# Altium footprint library GH1.25.PcbLib: 10 footprints
Each footprint in its own frame and in the unit in brackets; x right, y up, seen from the top. Pads: shape width x height; smd on the part's side, far side on the other; paste and mask are expansions set on the pad; w line width, h text height; cw(c..) or ccw(c..) is an arc to the next point about the centre after c.
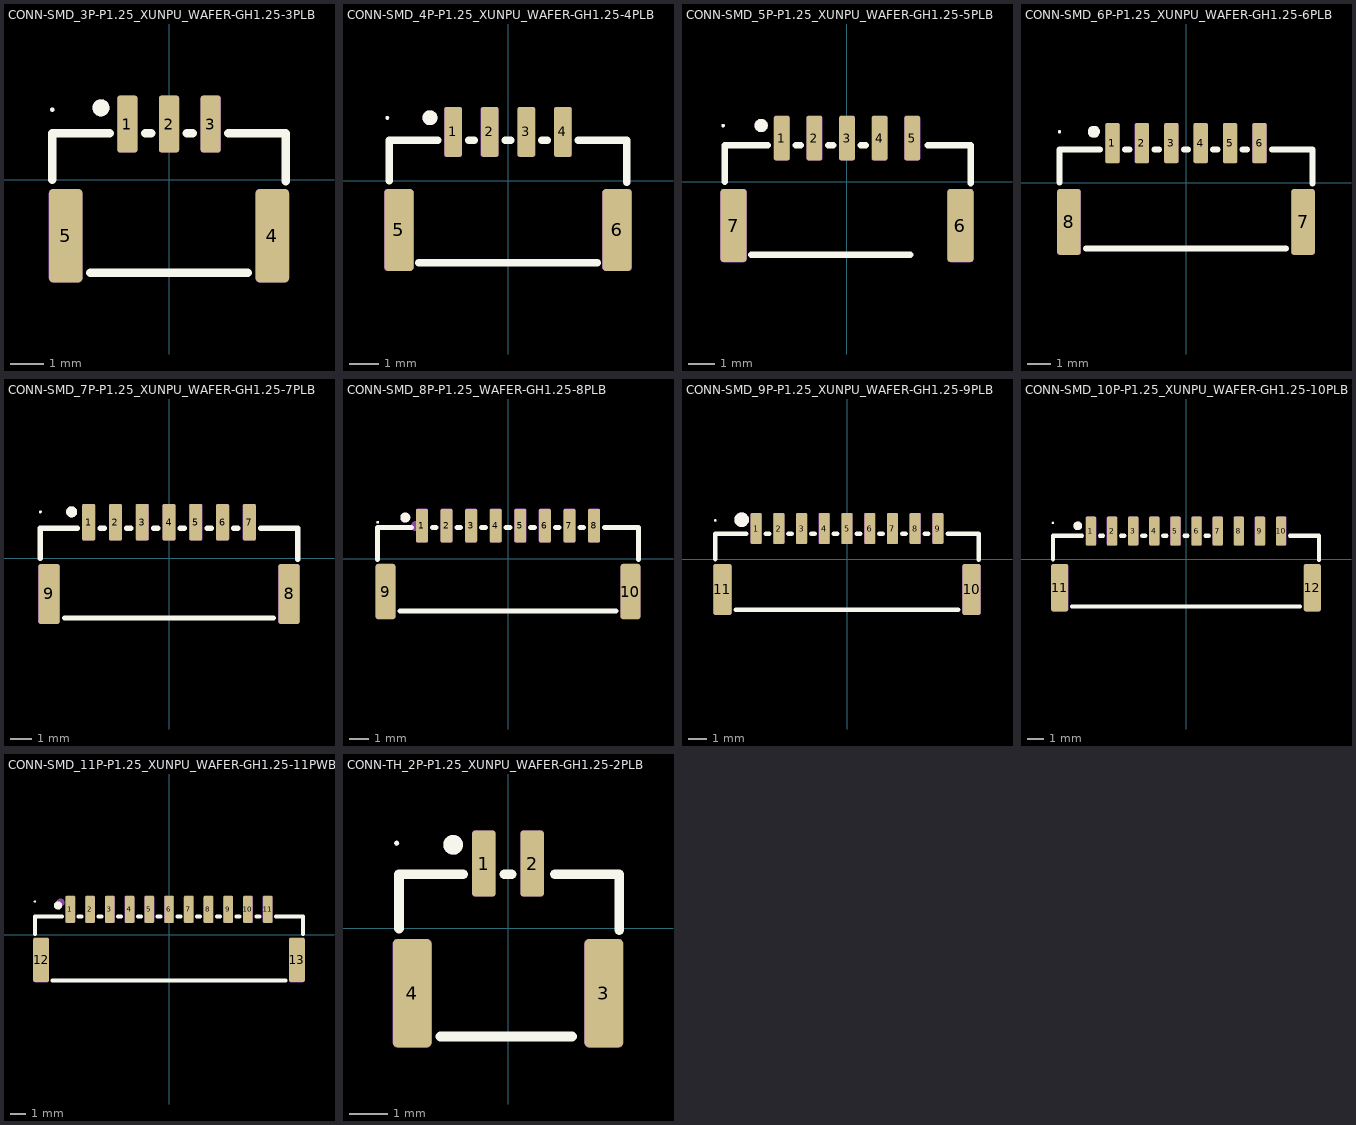
[diagram p0: the footprints below, top view; thin cyan lines are the x and y axes]

## CONN-SMD_3P-P1.25_XUNPU_WAFER-GH1.25-3PLB [mm] "SMD,P=1.25mm 卧贴"
height -909.212
pads (5):
  rrect25% 0.6x1.7 smd mask+0.05: 1(-1.25,1.675) 2(0,1.675) 3(1.25,1.675)
  rrect25% 1x2.8 smd mask+0.05: 4(3.1,-1.675) 5(-3.1,-1.675)
Top Overlay:
  circle w0.254: c-2.042,2.159 r0.127
  region: -3.44,2.106 -3.441,2.118 -3.444,2.129 -3.45,2.139 -3.457,2.148 -3.467,2.156 -3.477,2.161 -3.488,2.165 -3.5,2.166 -3.512,2.165 -3.523,2.161 -3.533,2.156 -3.542,2.148 -3.55,2.139 -3.555,2.129 -3.559,2.118 -3.56,2.106 -3.559,2.094 -3.555,2.083 -3.55,2.073 -3.542,2.064 -3.533,2.056 -3.523,2.051 -3.512,2.047 -3.5,2.046 -3.488,2.047 -3.477,2.051 -3.467,2.056 -3.457,2.064 -3.45,2.073 -3.444,2.083 -3.441,2.094
  lines w0.254: -3.5,0 -3.5,1.397 -1.781,1.397 ; -2.369,-2.794 2.369,-2.794 ; -0.719,1.397 -0.531,1.397 ; 0.531,1.397 0.719,1.397 ; 1.781,1.397 3.5,1.397 3.5,-0.044
Mechanical 2:
  circle w0.254: c-2.042,2.159 r0.127
Mechanical 9:
  drawing of 5 lines, arcs and shapes, not listed
3D body "CONN-SMD_3P-P1.25_XUNPU_WAFER-GH1.25-3PLB.step": height 1, standoff 0, extent -3.5,-2.794 3.5,1.206

## CONN-SMD_4P-P1.25_XUNPU_WAFER-GH1.25-4PLB [mm] "SMD,P=1.25mm 卧贴"
height -909.212
pads (6):
  rrect25% 0.6x1.7 smd mask+0.05: 1(-1.875,1.675) 2(-0.625,1.675) 3(0.625,1.675) 4(1.875,1.675)
  rrect25% 1x2.8 smd mask+0.05: 5(-3.725,-1.675) 6(3.725,-1.675)
Top Overlay:
  circle w0.254: c-2.667,2.159 r0.127
  region: -4.065,2.156 -4.066,2.168 -4.07,2.179 -4.075,2.189 -4.083,2.198 -4.092,2.206 -4.102,2.211 -4.113,2.215 -4.125,2.216 -4.137,2.215 -4.148,2.211 -4.158,2.206 -4.167,2.198 -4.175,2.189 -4.18,2.179 -4.184,2.168 -4.185,2.156 -4.184,2.144 -4.18,2.133 -4.175,2.123 -4.167,2.114 -4.158,2.106 -4.148,2.101 -4.137,2.097 -4.125,2.096 -4.113,2.097 -4.102,2.101 -4.092,2.106 -4.083,2.114 -4.075,2.123 -4.07,2.133 -4.066,2.144
  lines w0.254: -4.064,0 -4.064,1.397 -2.406,1.397 ; -3.048,-2.794 3.048,-2.794 ; -1.344,1.397 -1.156,1.397 ; -0.094,1.397 0.094,1.397 ; 1.156,1.397 1.344,1.397 ; 2.406,1.397 4.064,1.397 4.064,-0.044
Mechanical 2:
  circle w0.254: c-2.667,2.159 r0.127
Mechanical 9:
  drawing of 6 lines, arcs and shapes, not listed
3D body "CONN-TH_4P-P1.25_XUNPU_WAFER-GH1.25-4PLB.step": height 1, standoff 0, extent -4.125,-2.794 4.125,1.456

## CONN-SMD_5P-P1.25_XUNPU_WAFER-GH1.25-5PLB [mm] "SMD,P=1.25mm 卧贴"
height -909.212
pads (7):
  rrect25% 0.6x1.7 smd mask+0.05: 1(-2.5,1.675) 2(-1.25,1.675) 3(0,1.675) 4(1.25,1.675) 5(2.5,1.675)
  rrect25% 1x2.8 smd mask+0.05: 6(4.35,-1.675) 7(-4.35,-1.675)
Top Overlay:
  circle w0.254: c-3.292,2.159 r0.127
  region: -4.69,2.156 -4.691,2.168 -4.695,2.179 -4.7,2.189 -4.708,2.198 -4.717,2.206 -4.727,2.211 -4.738,2.215 -4.75,2.216 -4.762,2.215 -4.773,2.211 -4.783,2.206 -4.792,2.198 -4.8,2.189 -4.805,2.179 -4.809,2.168 -4.81,2.156 -4.809,2.144 -4.805,2.133 -4.8,2.123 -4.792,2.114 -4.783,2.106 -4.773,2.101 -4.762,2.097 -4.75,2.096 -4.738,2.097 -4.727,2.101 -4.717,2.106 -4.708,2.114 -4.7,2.123 -4.695,2.133 -4.691,2.144
  lines w0.254: -4.689,0 -4.689,1.397 -3.031,1.397 ; -3.673,-2.794 2.423,-2.794 ; -1.969,1.397 -1.781,1.397 ; -0.719,1.397 -0.531,1.397 ; 0.531,1.397 0.719,1.397 ; 3.092,1.397 4.75,1.397 4.75,-0.044
Mechanical 2:
  circle w0.254: c-3.292,2.159 r0.127
Mechanical 9:
  drawing of 7 lines, arcs and shapes, not listed
3D body "CONN-SMD_5P-P1.25_XUNPU_WAFER-GH1.25-5PLB.step": height 1, standoff 0, extent -4.75,-2.794 4.75,1.456

## CONN-SMD_6P-P1.25_XUNPU_WAFER-GH1.25-6PLB [mm] "SMD,P=1.25mm 卧贴"
height -909.212
pads (8):
  rrect25% 0.6x1.7 smd mask+0.05: 1(-3.125,1.675) 2(-1.875,1.675) 3(-0.625,1.675) 4(0.625,1.675) 5(1.875,1.675) 6(3.125,1.675)
  rrect25% 1x2.8 smd mask+0.05: 7(4.975,-1.675) 8(-4.975,-1.675)
Top Overlay:
  circle w0.254: c-3.917,2.159 r0.127
  region: -5.315,2.159 -5.316,2.17 -5.32,2.182 -5.325,2.192 -5.333,2.201 -5.342,2.209 -5.352,2.214 -5.363,2.218 -5.375,2.219 -5.387,2.218 -5.398,2.214 -5.408,2.209 -5.417,2.201 -5.425,2.192 -5.43,2.182 -5.434,2.17 -5.435,2.159 -5.434,2.147 -5.43,2.136 -5.425,2.125 -5.417,2.116 -5.408,2.109 -5.398,2.103 -5.387,2.1 -5.375,2.099 -5.363,2.1 -5.352,2.103 -5.342,2.109 -5.333,2.116 -5.325,2.125 -5.32,2.136 -5.316,2.147
  lines w0.254: -5.375,0 -5.375,1.397 -3.656,1.397 ; -4.244,-2.794 4.244,-2.794 ; -2.594,1.397 -2.406,1.397 ; -1.344,1.397 -1.156,1.397 ; -0.094,1.397 0.094,1.397 ; 1.156,1.397 1.344,1.397 ; 2.406,1.397 2.594,1.397 ; 3.656,1.397 5.375,1.397 5.375,-0.044
Mechanical 2:
  circle w0.254: c-3.917,2.159 r0.127
Mechanical 9:
  drawing of 8 lines, arcs and shapes, not listed
3D body "CONN-SMD_6P-P1.25_XUNPU_WAFER-GH1.25-6PLB.step": height 1, standoff 0, extent -5.375,-2.791 5.375,1.459

## CONN-SMD_7P-P1.25_XUNPU_WAFER-GH1.25-7PLB [mm] "SMD,P=1.25mm 卧贴"
height -909.212
pads (9):
  rrect25% 0.6x1.7 smd mask+0.05: 1(-3.75,1.675) 2(-2.5,1.675) 3(-1.25,1.675) 4(0,1.675) 5(1.25,1.675) 6(2.5,1.675) 7(3.75,1.675)
  rrect25% 1x2.8 smd mask+0.05: 8(5.6,-1.675) 9(-5.6,-1.675)
Top Overlay:
  circle w0.254: c-4.542,2.159 r0.127
  region: -5.94,2.156 -5.941,2.168 -5.945,2.179 -5.95,2.189 -5.958,2.199 -5.967,2.206 -5.977,2.212 -5.988,2.215 -6,2.216 -6.012,2.215 -6.023,2.212 -6.033,2.206 -6.042,2.199 -6.05,2.189 -6.055,2.179 -6.059,2.168 -6.06,2.156 -6.059,2.144 -6.055,2.133 -6.05,2.123 -6.042,2.114 -6.033,2.106 -6.023,2.101 -6.012,2.097 -6,2.096 -5.988,2.097 -5.977,2.101 -5.967,2.106 -5.958,2.114 -5.95,2.123 -5.945,2.133 -5.941,2.144
  lines w0.254: -6,0 -6,1.397 -4.281,1.397 ; -4.869,-2.794 4.869,-2.794 ; -3.219,1.397 -3.031,1.397 ; -1.969,1.397 -1.781,1.397 ; -0.719,1.397 -0.531,1.397 ; 0.531,1.397 0.719,1.397 ; 1.781,1.397 1.969,1.397 ; 3.031,1.397 3.219,1.397 ; 4.281,1.397 6,1.397 6,-0.044
Mechanical 2:
  circle w0.254: c-4.542,2.159 r0.127
Mechanical 9:
  drawing of 9 lines, arcs and shapes, not listed
3D body "CONN-SMD_7P-P1.25_XUNPU_WAFER-GH1.25-7PLB.step": height 1, standoff 0, extent -6,-2.794 6,1.456

## CONN-SMD_8P-P1.25_WAFER-GH1.25-8PLB [mm] "CONN-SMD_8P-P1.25_WAFER-GH1.25-8PLB 卧贴"
height -909.212
pads (10):
  rrect25% 0.6x1.7 smd mask+0.05: 1(-4.375,1.675) 2(-3.125,1.675) 3(-1.875,1.675) 4(-0.625,1.675) 5(0.625,1.675) 6(1.875,1.675) 7(3.125,1.675) 8(4.375,1.675)
  rrect25% 1x2.8 smd mask+0.05: 9(-6.225,-1.675) 10(6.225,-1.675)
Top Overlay:
  circle w0.254: c-5.221,2.084 r0.127
  region: -6.565,1.845 -6.566,1.857 -6.57,1.868 -6.575,1.878 -6.583,1.887 -6.592,1.895 -6.602,1.9 -6.614,1.904 -6.625,1.905 -6.637,1.904 -6.648,1.9 -6.659,1.895 -6.668,1.887 -6.675,1.878 -6.681,1.868 -6.684,1.857 -6.685,1.845 -6.684,1.833 -6.681,1.822 -6.675,1.811 -6.668,1.802 -6.659,1.795 -6.648,1.789 -6.637,1.786 -6.625,1.785 -6.614,1.786 -6.602,1.789 -6.592,1.795 -6.583,1.802 -6.575,1.811 -6.57,1.822 -6.566,1.833
  lines w0.254: -6.625,-0.044 -6.625,1.575 -4.906,1.575 ; -5.494,-2.675 5.494,-2.675 ; -3.844,1.575 -3.656,1.575 ; -2.594,1.575 -2.406,1.575 ; -1.344,1.575 -1.156,1.575 ; -0.094,1.575 0.094,1.575 ; 1.156,1.575 1.344,1.575 ; 2.406,1.575 2.594,1.575 ; 3.656,1.575 3.844,1.575 ; 4.906,1.575 6.626,1.575 6.626,-0.044
Mechanical 2:
  circle w0.254: c-4.686,1.65 r0.127
Mechanical 9:
  drawing of 10 lines, arcs and shapes, not listed
3D body "CONN-SMD_8P-P1.25_WAFER-GH1.25-8PLB.step": height 1, standoff 0, extent -6.625,-2.675 6.625,1.575

## CONN-SMD_9P-P1.25_XUNPU_WAFER-GH1.25-9PLB [mm] "SMD,P=1.25mm 卧贴"
height -909.212
pads (11):
  rrect25% 0.6x1.7 smd mask+0.05: 1(-5,1.675) 2(-3.75,1.675) 3(-2.5,1.675) 4(-1.25,1.675) 5(0,1.675) 6(1.25,1.675) 7(2.5,1.675) 8(3.75,1.675) 9(5,1.675)
  rrect25% 1x2.8 smd mask+0.05: 10(6.85,-1.675) 11(-6.85,-1.675)
Top Overlay:
  circle w0.4: c-5.792,2.159 r0.2
  region: -7.19,2.122 -7.191,2.134 -7.195,2.145 -7.2,2.155 -7.208,2.165 -7.217,2.172 -7.227,2.178 -7.238,2.181 -7.25,2.182 -7.262,2.181 -7.273,2.178 -7.283,2.172 -7.292,2.165 -7.3,2.155 -7.305,2.145 -7.309,2.134 -7.31,2.122 -7.309,2.11 -7.305,2.099 -7.3,2.089 -7.292,2.08 -7.283,2.072 -7.273,2.067 -7.262,2.063 -7.25,2.062 -7.238,2.063 -7.227,2.067 -7.217,2.072 -7.208,2.08 -7.2,2.089 -7.195,2.099 -7.191,2.11
  lines w0.254: -7.25,0 -7.25,1.397 -5.531,1.397 ; -6.119,-2.794 3.619,-2.794 6.119,-2.794 ; -4.469,1.397 -4.281,1.397 ; -3.219,1.397 -3.031,1.397 ; -1.969,1.397 -1.781,1.397 ; -0.719,1.397 -0.531,1.397 ; 0.531,1.397 0.719,1.397 ; 1.781,1.397 1.969,1.397 ; 3.031,1.397 3.219,1.397 ; 4.281,1.397 4.469,1.397 ; 5.531,1.397 7.239,1.397 7.239,-0.044
Mechanical 2:
  circle w0.4: c-5.792,2.159 r0.2
Mechanical 9:
  drawing of 11 lines, arcs and shapes, not listed
3D body "CONN-SMD_9P-P1.25_XUNPU_WAFER-GH1.25-9PLB.step": height 1, standoff 0, extent -7.25,-2.828 7.25,1.422

## CONN-SMD_10P-P1.25_XUNPU_WAFER-GH1.25-10PLB [mm] "SMD,P=1.25mm; GH1.25-10PWBP2 卧贴"
height -909.212
pads (12):
  rrect25% 0.6x1.7 smd mask+0.05: 1(-5.625,1.675) 2(-4.375,1.675) 3(-3.125,1.675) 4(-1.875,1.675) 5(-0.624,1.675) 6(0.625,1.675) 7(1.875,1.675) 8(3.126,1.675) 9(4.376,1.675) 10(5.625,1.675)
  rrect25% 1x2.8 smd mask+0.05: 11(-7.475,-1.675) 12(7.475,-1.675)
Top Overlay:
  circle w0.254: c-6.405,1.98 r0.127
  region: -7.815,2.156 -7.816,2.168 -7.819,2.179 -7.825,2.189 -7.832,2.198 -7.842,2.206 -7.852,2.211 -7.863,2.215 -7.875,2.216 -7.887,2.215 -7.898,2.211 -7.908,2.206 -7.917,2.198 -7.925,2.189 -7.93,2.179 -7.934,2.168 -7.935,2.156 -7.934,2.144 -7.93,2.133 -7.925,2.123 -7.917,2.114 -7.908,2.106 -7.898,2.101 -7.887,2.097 -7.875,2.096 -7.863,2.097 -7.852,2.101 -7.842,2.106 -7.832,2.114 -7.825,2.123 -7.819,2.133 -7.816,2.144
  lines w0.254: -7.875,0 -7.875,1.397 -6.156,1.397 ; -6.744,-2.795 6.744,-2.795 ; -5.094,1.397 -4.906,1.397 ; -3.844,1.397 -3.656,1.397 ; -2.594,1.397 -2.406,1.397 ; -1.344,1.397 -1.156,1.397 ; -0.094,1.397 0.094,1.397 ; 1.156,1.397 1.344,1.397 ; 6.156,1.397 7.875,1.397 7.875,-0.044
Mechanical 2:
  circle w0.254: c-6.405,1.98 r0.127
Mechanical 9:
  drawing of 12 lines, arcs and shapes, not listed
3D body "CONN-SMD_10P-P1.25_XUNPU_WAFER-GH1.25-10PLB.step": height 1, standoff 0, extent -7.875,-2.794 7.875,1.456

## CONN-SMD_11P-P1.25_XUNPU_WAFER-GH1.25-11PWB [mm] "CONN-SMD_11P-P1.25_XUNPU_WAFER-GH1.25-11PWB"
height -909.212
pads (13):
  rrect25% 0.6x1.7 smd mask+0.05: 1(-6.25,1.6) 2(-5,1.6) 3(-3.75,1.6) 4(-2.5,1.6) 5(-1.25,1.6) 6(0,1.6) 7(1.25,1.6) 8(2.5,1.6) 9(3.75,1.6) 10(5,1.6) 11(6.25,1.6)
  rrect25% 1x2.8 smd mask+0.05: 12(-8.1,-1.6) 13(8.1,-1.6)
Top Overlay:
  circle w0.254: c-7.025,1.85 r0.127
  region: -8.44,2.1 -8.441,2.112 -8.444,2.123 -8.45,2.133 -8.457,2.142 -8.467,2.15 -8.477,2.155 -8.488,2.159 -8.5,2.16 -8.512,2.159 -8.523,2.155 -8.533,2.15 -8.542,2.142 -8.55,2.133 -8.555,2.123 -8.559,2.112 -8.56,2.1 -8.559,2.088 -8.555,2.077 -8.55,2.067 -8.542,2.057 -8.533,2.05 -8.523,2.044 -8.512,2.041 -8.5,2.04 -8.488,2.041 -8.477,2.044 -8.467,2.05 -8.457,2.057 -8.45,2.067 -8.444,2.077 -8.441,2.088
  lines w0.254: -8.5,0.031 -8.5,1.15 -6.781,1.15 ; -7.369,-2.9 7.369,-2.9 ; -5.719,1.15 -5.531,1.15 ; -4.469,1.15 -4.281,1.15 ; -3.219,1.15 -3.031,1.15 ; -1.969,1.15 -1.781,1.15 ; -0.719,1.15 -0.531,1.15 ; 0.531,1.15 0.719,1.15 ; 1.781,1.15 1.969,1.15 ; 3.031,1.15 3.219,1.15 ; 4.281,1.15 4.469,1.15 ; 5.531,1.15 5.719,1.15 ; 6.781,1.15 8.5,1.15 8.5,0.031
Mechanical 2:
  circle w0.254: c-6.875,2.025 r0.127
Mechanical 9:
  drawing of 13 lines, arcs and shapes, not listed
3D body "CONN-SMD_11P-P1.25_XUNPU_WAFER-GH1.25-11PWB.step": height 1, standoff 0, extent -8.5,-2.9 8.5,1.15

## CONN-TH_2P-P1.25_XUNPU_WAFER-GH1.25-2PLB [mm] "SMD,P=1.25mm 卧贴"
height -909.212
pads (4):
  rrect25% 0.6x1.7 smd mask+0.05: 1(-0.625,1.675) 2(0.625,1.675)
  rrect25% 1x2.8 smd mask+0.05: 3(2.475,-1.675) 4(-2.475,-1.675)
Top Overlay:
  circle w0.254: c-1.417,2.159 r0.127
  region: -2.815,2.2 -2.816,2.212 -2.82,2.223 -2.825,2.233 -2.833,2.242 -2.842,2.25 -2.852,2.255 -2.863,2.259 -2.875,2.26 -2.887,2.259 -2.898,2.255 -2.908,2.25 -2.918,2.242 -2.925,2.233 -2.931,2.223 -2.934,2.212 -2.935,2.2 -2.934,2.188 -2.931,2.177 -2.925,2.167 -2.918,2.158 -2.908,2.15 -2.898,2.145 -2.887,2.141 -2.875,2.14 -2.863,2.141 -2.852,2.145 -2.842,2.15 -2.833,2.158 -2.825,2.167 -2.82,2.177 -2.816,2.188
  lines w0.254: -2.814,0 -2.814,1.397 -1.156,1.397 ; -1.744,-2.794 1.651,-2.794 ; -0.094,1.397 0.094,1.397 ; 1.217,1.397 2.875,1.397 2.875,-0.044
Mechanical 2:
  circle w0.254: c-1.417,2.159 r0.127
Mechanical 9:
  drawing of 4 lines, arcs and shapes, not listed
3D body "CONN-TH_2P-P1.25_XUNPU_WAFER-GH1.25-2PLB.step": height 1, standoff 0, extent -2.875,-2.794 2.875,1.456